# EAGLE library part DOCK-BUS (library ti-cc40)
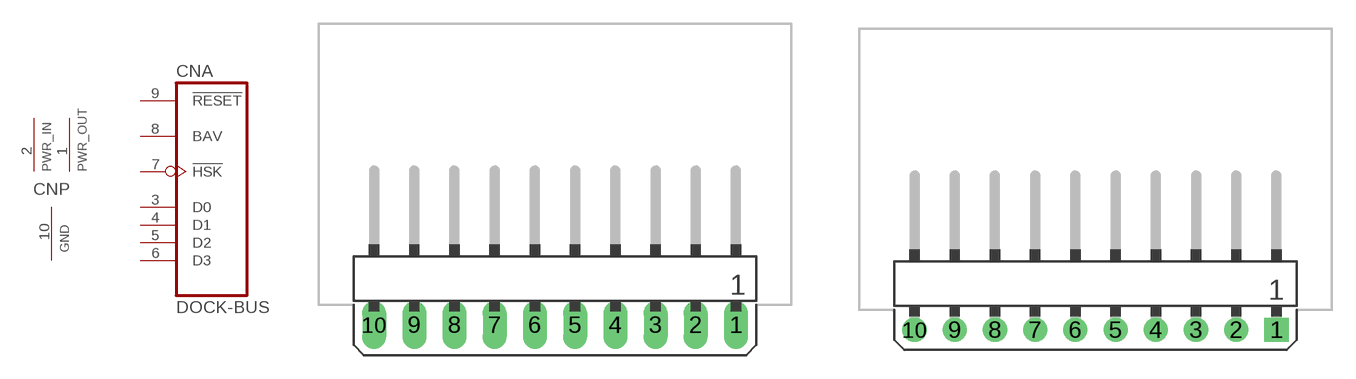
[diagram p3: symbol with the pads of DOCK-BUS; footprints DOCK-BUS, DOCK-BUS-RP]

Designator prefix CN; gates P=2PWRGND A=DOCK-BUS

## DOCK-BUS  [DOCK-BUS]
1  P:PWR_OUT  pwr
2  P:PWN_IN  pwr
3  A:D0
4  A:D1
5  A:D2
6  A:D3
7  A:!HSK  oc
8  A:BAV  oc
9  A:!RESET  oc
10  P:GND  pwr

## DOCK-BUSR  [DOCK-BUS-RP]
Pads as for DOCK-BUS

## Footprint DOCK-BUS (pad centres in mm)
TI-74 DOCK-BUS
drill 1.016 long: 1 11.43,0; 2 8.89,0; 3 6.35,0; 4 3.81,0; 5 1.27,0; 6 -1.27,0; 7 -3.81,0; 8 -6.35,0; 9 -8.89,0; 10 -11.43,0

## Footprint DOCK-BUS-RP (pad centres in mm)
TI-74 DOCK-BUS
drill 1.016 square: 1 11.43,0
drill 1.016: 2 8.89,0; 3 6.35,0; 4 3.81,0; 5 1.27,0; 6 -1.27,0; 7 -3.81,0; 8 -6.35,0; 9 -8.89,0; 10 -11.43,0